# Altium footprint library BMI323.PcbLib: 3 footprints
Each footprint in its own frame and in the unit in brackets; x right, y up, seen from the top. Pads: shape width x height; smd on the part's side, far side on the other; paste and mask are expansions set on the pad; w line width, h text height; cw(c..) or ccw(c..) is an arc to the next point about the centre after c.
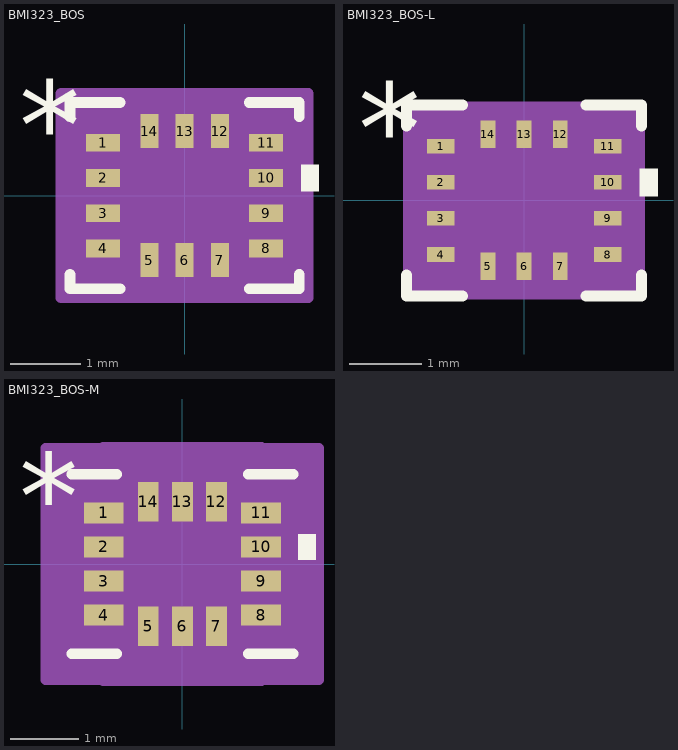
[diagram p0: the footprints below, top view; thin cyan lines are the x and y axes]

## BMI323_BOS [mil]
pads (14):
  rect 19x10 smd paste+0 mask+0: 1(-45.5,29.53) 2(-45.5,9.84) 3(-45.5,-9.84) 4(-45.5,-29.53) 8(45.5,-29.53) 9(45.5,-9.84) 10(45.5,9.84) 11(45.5,29.53)
  rect 10x19 smd paste+0 mask+0: 5(-19.68,-36) 6(0,-36) 7(19.68,-36) 12(19.68,36) 13(0,36) 14(-19.68,36)
Top Overlay:
  region: 65,17.34 75,17.34 75,2.34 65,2.34
  lines w6: -64,-44.05 -64,-52 -36.06,-52 ; -64,44.05 -64,52 -36.06,52 ; 36.06,-52 64,-52 64,-44.05 ; 36.06,52 64,52 64,44.05
  text "*" at -92.5,14.37 h50
Mechanical 13:
  lines w1: -59,-3 -9,47 ; -59,-47 59,-47 ; -59,-47 -59,47 ; -59,-47 -59,-47 ; -59,47 59,47 ; -59,47 -59,47 ; 59,-47 59,-47 ; 59,-47 59,47 ; 59,47 59,47 ; -59,-34.53 -59,-24.53 -55,-24.53 -55,-34.53 -59,-34.53 ; -59,-14.84 -59,-4.84 -55,-4.84 -55,-14.84 -59,-14.84 ; -59,4.84 -59,14.84 -55,14.84 -55,4.84 -59,4.84 ; -59,24.53 -59,34.53 -55,34.53 -55,24.53 -59,24.53 ; -24.68,-47 -14.69,-47 -14.69,-45.5 -24.68,-45.5 -24.68,-47 ; -24.68,45.5 -14.69,45.5 -14.69,47 -24.68,47 -24.68,45.5 ; -5,-47 5,-47 5,-45.5 -5,-45.5 -5,-47 ; -5,45.5 5,45.5 5,47 -5,47 -5,45.5 ; 14.69,-47 24.68,-47 24.68,-45.5 14.69,-45.5 14.69,-47 ; 14.69,45.5 24.68,45.5 24.68,47 14.69,47 14.69,45.5 ; 55,-34.53 59,-34.53 59,-24.53 55,-24.53 55,-34.53 ; 55,-14.84 59,-14.84 59,-4.84 55,-4.84 55,-14.84 ; 55,4.84 59,4.84 59,14.84 55,14.84 55,4.84 ; 55,24.53 59,24.53 59,34.53 55,34.53 55,24.53
  text "*" at -48.5,14.37 h50
Mechanical 15:
  region: -34.69,-57 -69,-57 -69,-44.53 -69,44.53 -69,57 -34.69,57 34.69,57 69,57 69,44.53 69,-44.53 69,-57 34.69,-57
  lines w6: -69,-44.53 -69,-57 -34.69,-57 ; -69,-44.53 -69,-44.53 ; -69,-44.53 -69,44.53 ; -69,44.53 -69,44.53 ; -69,44.53 -69,57 -34.69,57 ; -34.69,-57 34.69,-57 ; -34.69,-57 -34.69,-57 ; -34.69,57 -34.69,57 ; -34.69,57 34.69,57 ; 34.69,-57 69,-57 69,-44.53 ; 34.69,-57 34.69,-57 ; 34.69,57 34.69,57 ; 34.69,57 69,57 69,44.53 ; 69,-44.53 69,44.53 ; 69,-44.53 69,-44.53 ; 69,44.53 69,44.53
3D body "BMI323_BOS.step": height 34.09, standoff 0, extent -59.02,-47.01 59.02,47.01

## BMI323_BOS-L [mil]
pads (14):
  rect 15x8 smd paste+0 mask+0: 1(-45.5,29.53) 2(-45.5,9.84) 3(-45.5,-9.84) 4(-45.5,-29.53) 8(45.5,-29.53) 9(45.5,-9.84) 10(45.5,9.84) 11(45.5,29.53)
  rect 8x15 smd paste+0 mask+0: 5(-19.68,-36) 6(0,-36) 7(19.68,-36) 12(19.68,36) 13(0,36) 14(-19.68,36)
Top Overlay:
  region: 63,17.34 73,17.34 73,2.34 63,2.34
  lines w6: -64,-40.64 -64,-52 -33.65,-52 ; -64,40.64 -64,52 -33.65,52 ; 33.65,-52 64,-52 64,-40.64 ; 33.65,52 64,52 64,40.64
  text "*" at -90.5,14.37 h50
Mechanical 13:
  lines w1: -59,-3 -9,47 ; -59,-47 59,-47 ; -59,-47 -59,47 ; -59,-47 -59,-47 ; -59,47 59,47 ; -59,47 -59,47 ; 59,-47 59,-47 ; 59,-47 59,47 ; 59,47 59,47 ; -59,-34.53 -59,-24.53 -55,-24.53 -55,-34.53 -59,-34.53 ; -59,-14.84 -59,-4.84 -55,-4.84 -55,-14.84 -59,-14.84 ; -59,4.84 -59,14.84 -55,14.84 -55,4.84 -59,4.84 ; -59,24.53 -59,34.53 -55,34.53 -55,24.53 -59,24.53 ; -24.68,-47 -14.69,-47 -14.69,-45.5 -24.68,-45.5 -24.68,-47 ; -24.68,45.5 -14.69,45.5 -14.69,47 -24.68,47 -24.68,45.5 ; -5,-47 5,-47 5,-45.5 -5,-45.5 -5,-47 ; -5,45.5 5,45.5 5,47 -5,47 -5,45.5 ; 14.69,-47 24.68,-47 24.68,-45.5 14.69,-45.5 14.69,-47 ; 14.69,45.5 24.68,45.5 24.68,47 14.69,47 14.69,45.5 ; 55,-34.53 59,-34.53 59,-24.53 55,-24.53 55,-34.53 ; 55,-14.84 59,-14.84 59,-4.84 55,-4.84 55,-14.84 ; 55,4.84 59,4.84 59,14.84 55,14.84 55,4.84 ; 55,24.53 59,24.53 59,34.53 55,34.53 55,24.53
  text "*" at -50.5,14.37 h50
Mechanical 15:
  region: -27.68,-51 -63,-51 -63,-37.53 -63,37.53 -63,51 -27.68,51 27.68,51 63,51 63,37.53 63,-37.53 63,-51 27.68,-51
  lines w6: -63,-37.53 -63,-51 -27.68,-51 ; -63,-37.53 -63,-37.53 ; -63,-37.53 -63,37.53 ; -63,37.53 -63,37.53 ; -63,37.53 -63,51 -27.68,51 ; -27.68,-51 27.68,-51 ; -27.68,-51 -27.68,-51 ; -27.68,51 -27.68,51 ; -27.68,51 27.68,51 ; 27.68,-51 63,-51 63,-37.53 ; 27.68,-51 27.68,-51 ; 27.68,51 27.68,51 ; 27.68,51 63,51 63,37.53 ; 63,-37.53 63,37.53 ; 63,-37.53 63,-37.53 ; 63,37.53 63,37.53
3D body "BMI323_BOS.step": height 34.09, standoff 0, extent -59.02,-47.01 59.02,47.01

## BMI323_BOS-M [mil]
pads (14):
  rect 23x12 smd paste+0 mask+0: 1(-45.5,29.53) 2(-45.5,9.84) 3(-45.5,-9.84) 4(-45.5,-29.53) 8(45.5,-29.53) 9(45.5,-9.84) 10(45.5,9.84) 11(45.5,29.53)
  rect 12x23 smd paste+0 mask+0: 5(-19.68,-36) 6(0,-36) 7(19.68,-36) 12(19.68,36) 13(0,36) 14(-19.68,36)
Top Overlay:
  region: 67,17.34 77,17.34 77,2.34 67,2.34
  lines w6: -64,-52 -37.99,-52 ; -64,52 -37.99,52 ; 37.99,-52 64,-52 ; 37.99,52 64,52
  text "*" at -94.5,14.37 h50
Mechanical 13:
  lines w1: -59,-3 -9,47 ; -59,-47 59,-47 ; -59,-47 -59,47 ; -59,-47 -59,-47 ; -59,47 59,47 ; -59,47 -59,47 ; 59,-47 59,-47 ; 59,-47 59,47 ; 59,47 59,47 ; -59,-34.53 -59,-24.53 -55,-24.53 -55,-34.53 -59,-34.53 ; -59,-14.84 -59,-4.84 -55,-4.84 -55,-14.84 -59,-14.84 ; -59,4.84 -59,14.84 -55,14.84 -55,4.84 -59,4.84 ; -59,24.53 -59,34.53 -55,34.53 -55,24.53 -59,24.53 ; -24.68,-47 -14.69,-47 -14.69,-45.5 -24.68,-45.5 -24.68,-47 ; -24.68,45.5 -14.69,45.5 -14.69,47 -24.68,47 -24.68,45.5 ; -5,-47 5,-47 5,-45.5 -5,-45.5 -5,-47 ; -5,45.5 5,45.5 5,47 -5,47 -5,45.5 ; 14.69,-47 24.68,-47 24.68,-45.5 14.69,-45.5 14.69,-47 ; 14.69,45.5 24.68,45.5 24.68,47 14.69,47 14.69,45.5 ; 55,-34.53 59,-34.53 59,-24.53 55,-24.53 55,-34.53 ; 55,-14.84 59,-14.84 59,-4.84 55,-4.84 55,-14.84 ; 55,4.84 59,4.84 59,14.84 55,14.84 55,4.84 ; 55,24.53 59,24.53 59,34.53 55,34.53 55,24.53
  text "*" at -46.5,14.37 h50
Mechanical 15:
  region: -45.69,-67 -79,-67 -79,-55.53 -79,55.53 -79,67 -45.69,67 -45.69,67.5 45.69,67.5 45.69,67 79,67 79,55.53 79,-55.53 79,-67 45.69,-67 45.69,-67.5 -45.69,-67.5
  lines w6: -79,-55.53 -79,-67 -45.69,-67 -45.69,-67.5 45.69,-67.5 45.69,-67 79,-67 79,-55.53 ; -79,-55.53 -79,-55.53 ; -79,-55.53 -79,55.53 ; -79,55.53 -79,55.53 ; -79,55.53 -79,67 -45.69,67 -45.69,67.5 45.69,67.5 45.69,67 79,67 79,55.53 ; 79,-55.53 79,55.53 ; 79,-55.53 79,-55.53 ; 79,55.53 79,55.53
3D body "BMI323_BOS.step": height 34.09, standoff 0, extent -59.02,-47.01 59.02,47.01